# Altium schematic symbol library SCH - ARM CORTEX - ST STM32G071RxT LQFP64.SCHLIB: 1 symbol
Pins are listed as number, name and electrical type; pins without a type are passive.

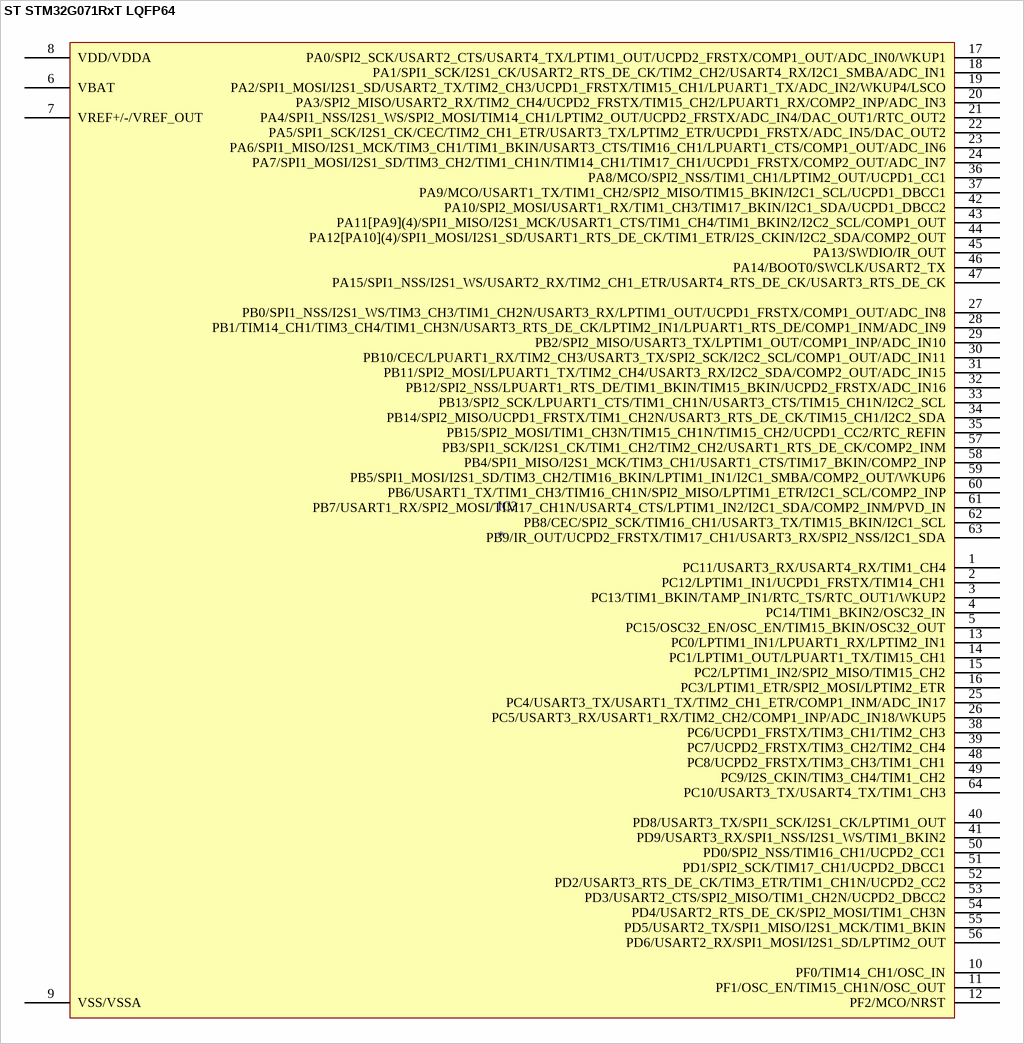
[diagram p0: symbol ST STM32G071RxT LQFP64]

## ST STM32G071RxT LQFP64
designator IC?
pins: 1 PC11/USART3_RX/USART4_RX/TIM1_CH4, 2 PC12/LPTIM1_IN1/UCPD1_FRSTX/TIM14_CH1, 3 PC13/TIM1_BKIN/TAMP_IN1/RTC_TS/RTC_OUT1/WKUP2, 4 PC14/TIM1_BKIN2/OSC32_IN, 5 PC15/OSC32_EN/OSC_EN/TIM15_BKIN/OSC32_OUT, 6 VBAT, 7 VREF+/-/VREF_OUT, 8 VDD/VDDA, 9 VSS/VSSA, 10 PF0/TIM14_CH1/OSC_IN, 11 PF1/OSC_EN/TIM15_CH1N/OSC_OUT, 12 PF2/MCO/NRST, 13 PC0/LPTIM1_IN1/LPUART1_RX/LPTIM2_IN1, 14 PC1/LPTIM1_OUT/LPUART1_TX/TIM15_CH1, 15 PC2/LPTIM1_IN2/SPI2_MISO/TIM15_CH2, 16 PC3/LPTIM1_ETR/SPI2_MOSI/LPTIM2_ETR, 17 PA0/SPI2_SCK/USART2_CTS/USART4_TX/LPTIM1_OUT/UCPD2_FRSTX/COMP1_OUT/ADC_IN0/WKUP1, 18 PA1/SPI1_SCK/I2S1_CK/USART2_RTS_DE_CK/TIM2_CH2/USART4_RX/I2C1_SMBA/ADC_IN1, 19 PA2/SPI1_MOSI/I2S1_SD/USART2_TX/TIM2_CH3/UCPD1_FRSTX/TIM15_CH1/LPUART1_TX/ADC_IN2/WKUP4/LSCO, 20 PA3/SPI2_MISO/USART2_RX/TIM2_CH4/UCPD2_FRSTX/TIM15_CH2/LPUART1_RX/COMP2_INP/ADC_IN3, 21 PA4/SPI1_NSS/I2S1_WS/SPI2_MOSI/TIM14_CH1/LPTIM2_OUT/UCPD2_FRSTX/ADC_IN4/DAC_OUT1/RTC_OUT2, 22 PA5/SPI1_SCK/I2S1_CK/CEC/TIM2_CH1_ETR/USART3_TX/LPTIM2_ETR/UCPD1_FRSTX/ADC_IN5/DAC_OUT2, 23 PA6/SPI1_MISO/I2S1_MCK/TIM3_CH1/TIM1_BKIN/USART3_CTS/TIM16_CH1/LPUART1_CTS/COMP1_OUT/ADC_IN6, 24 PA7/SPI1_MOSI/I2S1_SD/TIM3_CH2/TIM1_CH1N/TIM14_CH1/TIM17_CH1/UCPD1_FRSTX/COMP2_OUT/ADC_IN7, 25 PC4/USART3_TX/USART1_TX/TIM2_CH1_ETR/COMP1_INM/ADC_IN17, 26 PC5/USART3_RX/USART1_RX/TIM2_CH2/COMP1_INP/ADC_IN18/WKUP5, 27 PB0/SPI1_NSS/I2S1_WS/TIM3_CH3/TIM1_CH2N/USART3_RX/LPTIM1_OUT/UCPD1_FRSTX/COMP1_OUT/ADC_IN8, 28 PB1/TIM14_CH1/TIM3_CH4/TIM1_CH3N/USART3_RTS_DE_CK/LPTIM2_IN1/LPUART1_RTS_DE/COMP1_INM/ADC_IN9, 29 PB2/SPI2_MISO/USART3_TX/LPTIM1_OUT/COMP1_INP/ADC_IN10, 30 PB10/CEC/LPUART1_RX/TIM2_CH3/USART3_TX/SPI2_SCK/I2C2_SCL/COMP1_OUT/ADC_IN11, 31 PB11/SPI2_MOSI/LPUART1_TX/TIM2_CH4/USART3_RX/I2C2_SDA/COMP2_OUT/ADC_IN15, 32 PB12/SPI2_NSS/LPUART1_RTS_DE/TIM1_BKIN/TIM15_BKIN/UCPD2_FRSTX/ADC_IN16, 33 PB13/SPI2_SCK/LPUART1_CTS/TIM1_CH1N/USART3_CTS/TIM15_CH1N/I2C2_SCL, 34 PB14/SPI2_MISO/UCPD1_FRSTX/TIM1_CH2N/USART3_RTS_DE_CK/TIM15_CH1/I2C2_SDA, 35 PB15/SPI2_MOSI/TIM1_CH3N/TIM15_CH1N/TIM15_CH2/UCPD1_CC2/RTC_REFIN, 36 PA8/MCO/SPI2_NSS/TIM1_CH1/LPTIM2_OUT/UCPD1_CC1, 37 PA9/MCO/USART1_TX/TIM1_CH2/SPI2_MISO/TIM15_BKIN/I2C1_SCL/UCPD1_DBCC1, 38 PC6/UCPD1_FRSTX/TIM3_CH1/TIM2_CH3, 39 PC7/UCPD2_FRSTX/TIM3_CH2/TIM2_CH4, 40 PD8/USART3_TX/SPI1_SCK/I2S1_CK/LPTIM1_OUT, 41 PD9/USART3_RX/SPI1_NSS/I2S1_WS/TIM1_BKIN2, 42 PA10/SPI2_MOSI/USART1_RX/TIM1_CH3/TIM17_BKIN/I2C1_SDA/UCPD1_DBCC2, 43 PA11[PA9](4)/SPI1_MISO/I2S1_MCK/USART1_CTS/TIM1_CH4/TIM1_BKIN2/I2C2_SCL/COMP1_OUT, 44 PA12[PA10](4)/SPI1_MOSI/I2S1_SD/USART1_RTS_DE_CK/TIM1_ETR/I2S_CKIN/I2C2_SDA/COMP2_OUT, 45 PA13/SWDIO/IR_OUT, 46 PA14/BOOT0/SWCLK/USART2_TX, 47 PA15/SPI1_NSS/I2S1_WS/USART2_RX/TIM2_CH1_ETR/USART4_RTS_DE_CK/USART3_RTS_DE_CK, 48 PC8/UCPD2_FRSTX/TIM3_CH3/TIM1_CH1, 49 PC9/I2S_CKIN/TIM3_CH4/TIM1_CH2, 50 PD0/SPI2_NSS/TIM16_CH1/UCPD2_CC1, 51 PD1/SPI2_SCK/TIM17_CH1/UCPD2_DBCC1, 52 PD2/USART3_RTS_DE_CK/TIM3_ETR/TIM1_CH1N/UCPD2_CC2, 53 PD3/USART2_CTS/SPI2_MISO/TIM1_CH2N/UCPD2_DBCC2, 54 PD4/USART2_RTS_DE_CK/SPI2_MOSI/TIM1_CH3N, 55 PD5/USART2_TX/SPI1_MISO/I2S1_MCK/TIM1_BKIN, 56 PD6/USART2_RX/SPI1_MOSI/I2S1_SD/LPTIM2_OUT, 57 PB3/SPI1_SCK/I2S1_CK/TIM1_CH2/TIM2_CH2/USART1_RTS_DE_CK/COMP2_INM, 58 PB4/SPI1_MISO/I2S1_MCK/TIM3_CH1/USART1_CTS/TIM17_BKIN/COMP2_INP, 59 PB5/SPI1_MOSI/I2S1_SD/TIM3_CH2/TIM16_BKIN/LPTIM1_IN1/I2C1_SMBA/COMP2_OUT/WKUP6, 60 PB6/USART1_TX/TIM1_CH3/TIM16_CH1N/SPI2_MISO/LPTIM1_ETR/I2C1_SCL/COMP2_INP, 61 PB7/USART1_RX/SPI2_MOSI/TIM17_CH1N/USART4_CTS/LPTIM1_IN2/I2C1_SDA/COMP2_INM/PVD_IN, 62 PB8/CEC/SPI2_SCK/TIM16_CH1/USART3_TX/TIM15_BKIN/I2C1_SCL, 63 PB9/IR_OUT/UCPD2_FRSTX/TIM17_CH1/USART3_RX/SPI2_NSS/I2C1_SDA, 64 PC10/USART3_TX/USART4_TX/TIM1_CH3